# Altium footprint library 885012210032.PcbLib: 1 footprints
Each footprint in its own frame and in the unit in brackets; x right, y up, seen from the top. Pads: shape width x height; smd on the part's side, far side on the other; paste and mask are expansions set on the pad; w line width, h text height; cw(c..) or ccw(c..) is an arc to the next point about the centre after c.
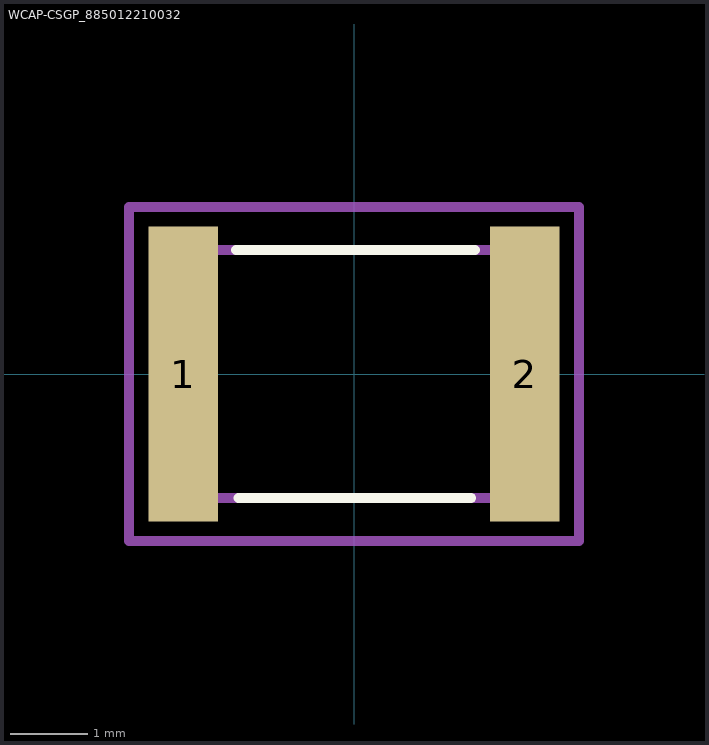
[diagram p0: the footprint, top view; thin cyan lines are the x and y axes]

## WCAP-CSGP_885012210032 [mm]
pads (2):
  rect 0.9x3.8 smd: 1(-2.2,0) 2(2.2,0)
Top Overlay:
  lines w0.127: -1.52,1.6 1.56,1.6 ; -1.49,-1.6 1.51,-1.6
Mechanical 13:
  lines w0.127: -2.25,-1.6 2.25,-1.6 2.25,1.6 -2.25,1.6 -2.25,-1.6
Mechanical 15:
  lines w0.127: -2.9,-2.15 2.9,-2.15 2.9,2.15 -2.9,2.15 -2.9,-2.15
3D body "step_temp.STEP": height 0.38, standoff -4.13, extent -1.6,-1.25 1.6,1.25